# EAGLE library part 12CONTACT_ULTRAFIT_R/A (library BlueShift)
Molex 1723101103 3 Position (One Row) Ultra-Fit (14 A) Right Angle Connector Used in 2020 for Underwater Motor to ESC (Through the PCB) Connections Keep in mind you need the Contacts (the bits that get crimped on a wire) the Housing (the bits the contacts get shoved into) and this thing for it to work. Purchase: https://www.digikey.com/product-detail/en/molex/1723161112/WM11853-ND/5360318 Documentation: http://www.literature.molex.com/SQLImages/kelmscott/Molex/PDF_Images/987651-1008.pdf Technical Drawings: https://www.molex.com/pdm_docs/sd/1723161112_sd.pdf All Molex Connectors on Digikey: https://www.digikey.com/en/product-highlight/m/molex/power-connectors
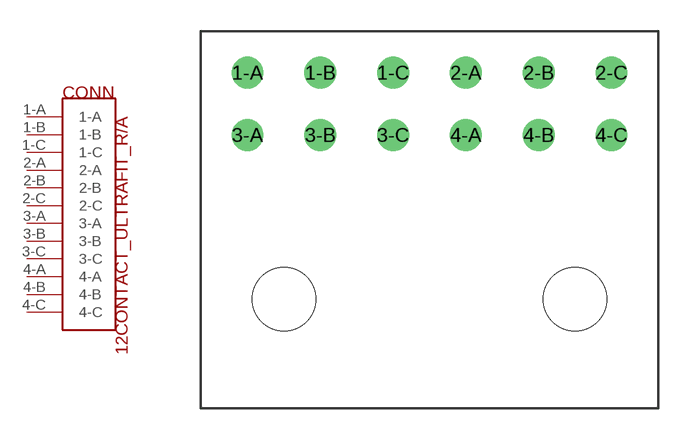
[diagram p0: symbol with the pads of 12CONTACT_ULTRAFIT_R/A; footprint 12CONTACT_ULTRAFIT_R/A]

Designator prefix CONN

## 12CONTACT_ULTRAFIT_R/A  [12CONTACT_ULTRAFIT_R/A]
1-A  1-A
1-B  1-B
1-C  1-C
2-A  2-A
2-B  2-B
2-C  2-C
3-A  3-A
3-B  3-B
3-C  3-C
4-A  4-A
4-B  4-B
4-C  4-C

## Footprint 12CONTACT_ULTRAFIT_R/A (pad centres in mm)
drill 1.02: 1-A -8.75,0; 1-B -5.25,0; 1-C -1.75,0; 2-A 1.75,0; 2-B 5.25,0; 2-C 8.75,0; 3-A -8.75,-3; 3-B -5.25,-3; 3-C -1.75,-3; 4-A 1.75,-3; 4-B 5.25,-3; 4-C 8.75,-3
hole 3.05 at -7,-10.91
hole 3.05 at 7,-10.91